# Altium footprint library Power IC Pad Lib.PcbLib: 21 footprints (part 1 of 2)
Each footprint in its own frame and in the unit in brackets; x right, y up, seen from the top. Pads: shape width x height; smd on the part's side, far side on the other; paste and mask are expansions set on the pad; w line width, h text height; cw(c..) or ccw(c..) is an arc to the next point about the centre after c.
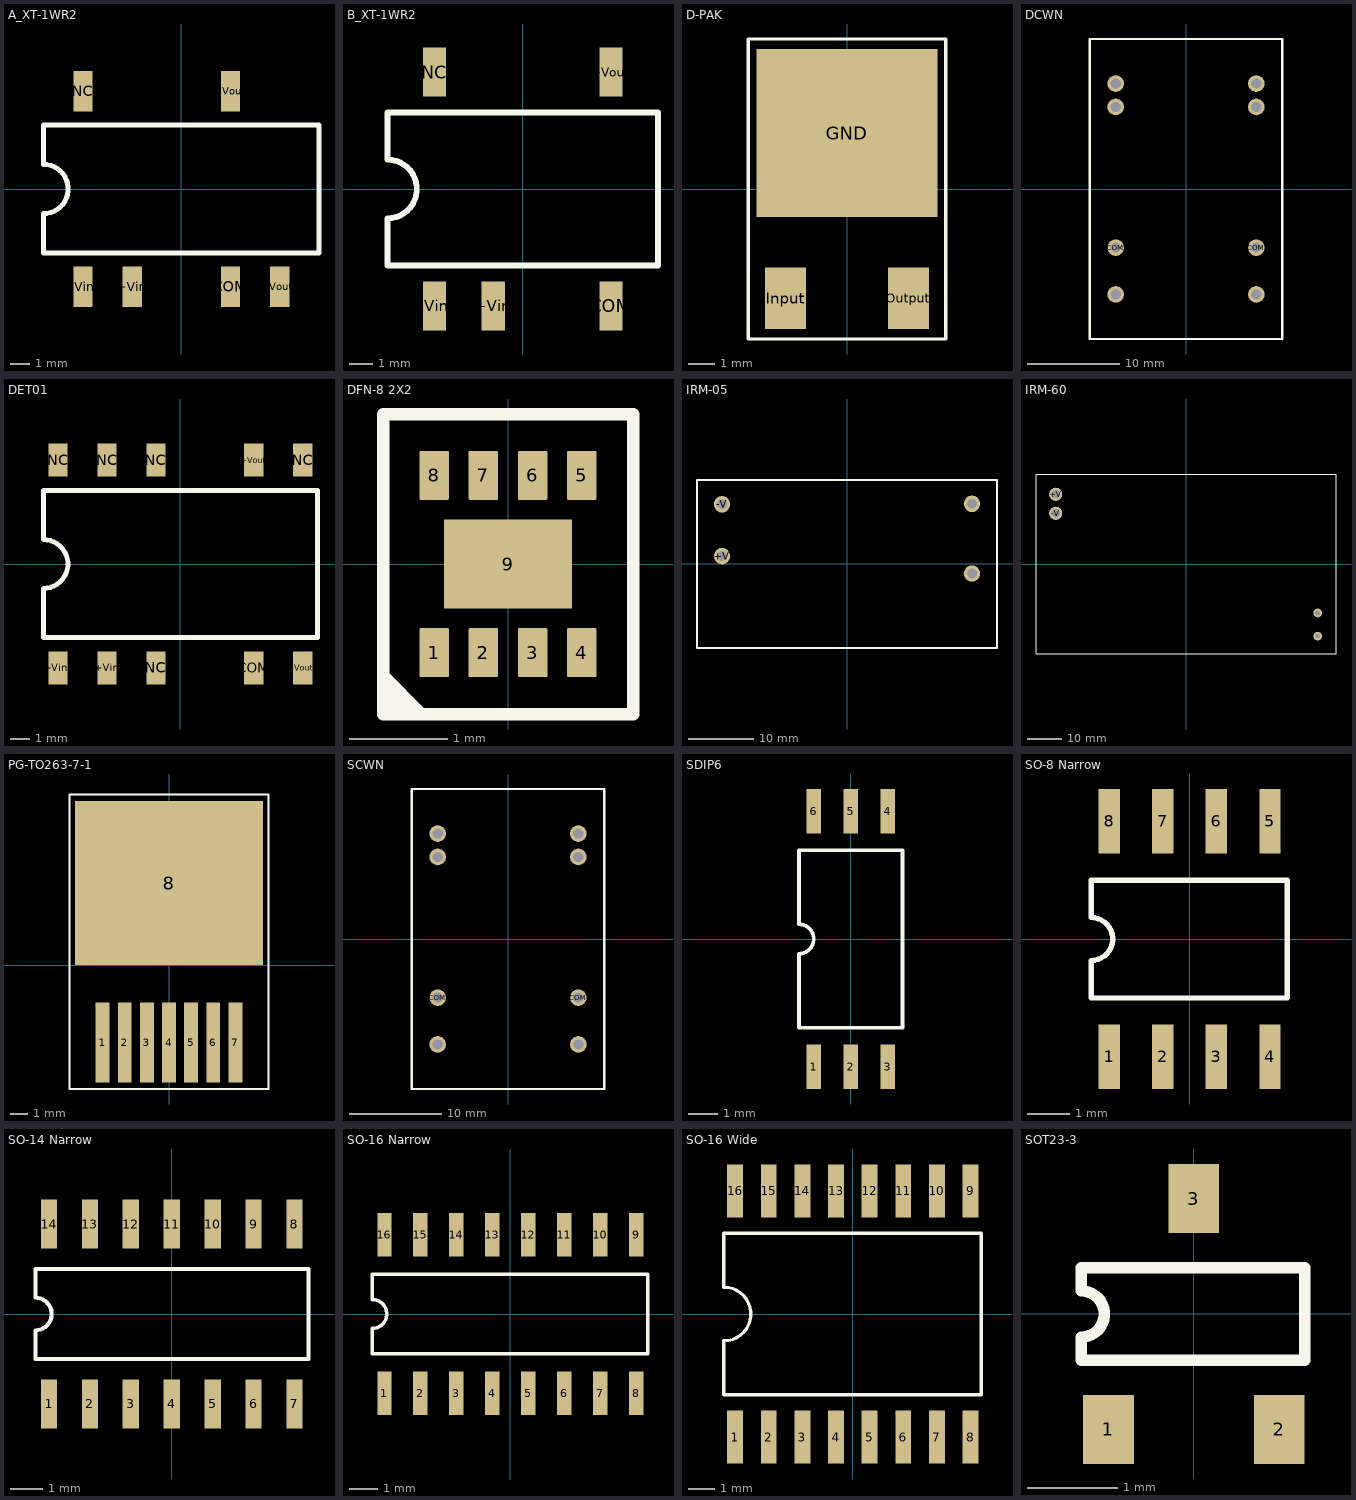
[diagram p0: the footprints below, top view; thin cyan lines are the x and y axes]

## A_XT-1WR2 [mm] "A_XT-1WR2"
pads (6):
  rect 1x2.1 smd: +Vin(-2.54,-5.05) +Vout(2.54,5.05) -Vin(-5.08,-5.05) -Vout(5.08,-5.05) COM(2.54,-5.05) NC(-5.08,5.05)
Top Overlay:
  lines w0.254: -7.112,-3.302 7.112,-3.302 7.112,3.302 -7.112,3.302 -7.112,1.27 cw(c-7.112,0) -7.112,-1.27 -7.112,-3.302
3D body: height 4.34, standoff -0.56, extent -1.778,0 -1.778,0
3D body: height 4.34, standoff -0.56, extent -1.778,0 -1.778,0
3D body "A_XT-1WR2.STEP": height 7.25, standoff 0, extent -7.62,-5.5 7.62,5.7

## B_XT-1WR2 [mm] "B_XT-1WR2"
pads (5):
  rect 1x2.1 smd: +Vin(-1.27,-5.05) +Vout(3.81,5.05) -Vin(-3.81,-5.05) COM(3.81,-5.05) NC(-3.81,5.05)
Top Overlay:
  lines w0.254: -5.842,-3.302 -5.842,-1.27 ccw(c-5.842,0) -5.842,1.27 -5.842,3.302 5.842,3.302 5.842,-3.302 -5.842,-3.302
3D body: height 4.34, standoff -0.56, extent -1.778,0 -1.778,0
3D body: height 4.34, standoff -0.56, extent -1.778,0 -1.778,0
3D body "B_XT-1WR2.STEP": height 7.24, standoff -0.01, extent -6.335,-5.621 6.365,5.579

## D-PAK [mil] "D-PAK Package"
pads (3):
  rect 265x246 smd: GND(0,82)
  rect 60x90 smd: Input(-90,-160) Output(90,-160)
Top Overlay:
  lines w5: -145,-220 145,-220 145,220 -145,220 -145,-220
3D body: height 171, standoff -22, extent 0,0 0,0
3D body: height 171, standoff -22, extent 0,0 0,0
3D body "D-PAK.STEP": height 90.55, standoff 0, extent -127.81,-180.69 127.83,193.33

## DCWN [mm] "DCWN"
pads (8):
  round 1.8 hole 1.1: +Vin(7.62,8.89) +Vin(7.62,11.43) +Vout(7.62,-11.43) -Vin(-7.62,8.89) -Vin(-7.62,11.43) -Vout(-7.62,-11.43) COM(-7.62,-6.35) COM(7.62,-6.35)
Top Overlay:
  lines w0.254: -10.414,-16.256 10.414,-16.256 10.414,16.256 -10.414,16.256 -10.414,-16.256
3D body "DCWN.STEP": height 12.23, standoff -3.79, extent -10.15,-15.9 10.15,15.9

## DET01 [mm] "DET01"
pads (10):
  rect 1x1.7 smd: +Vin(-3.81,-5.4) +Vout(3.81,5.4) -Vin(-6.35,-5.4) -Vout(6.35,-5.4) COM(3.81,-5.4) NC(-6.35,5.4) NC(-3.81,5.4) NC(-1.27,-5.4) NC(-1.27,5.4) NC(6.35,5.4)
Top Overlay:
  lines w0.254: -7.112,-3.81 7.112,-3.81 7.112,3.81 -7.112,3.81 -7.112,1.27 cw(c-7.112,0) -7.112,-1.27 -7.112,-3.81
3D body: height 4.34, standoff -0.56, extent -1.778,0 -1.778,0
3D body: height 4.34, standoff -0.56, extent -1.778,0 -1.778,0
3D body "DET01.STEP": height 6.55, standoff 0, extent -7.62,-5.55 7.62,5.55

## DFN-8 2X2 [mm] "SMD DFN-8  Size:2x2x1mm, 0.5mm Pitch (OnSemi)"
height 1
pads (9):
  rrect10% 0.3x0.5 smd: 1(-0.75,-0.9) 2(-0.25,-0.9) 3(0.25,-0.9) 4(0.75,-0.9) 5(0.75,0.9) 6(0.25,0.9) 7(-0.25,0.9) 8(-0.75,0.9)
  rect 1.3x0.9 smd: 9(0,0)
Top Overlay:
  region: -0.797,-1.524 -1.27,-1.524 -1.27,-1.051
  lines w0.127: -1.27,-1.524 1.27,-1.524 1.27,1.524 -1.27,1.524 -1.27,-1.524
3D body "DFN-8 2x2mm.STEP": height 1, standoff 0, extent -1,-1.05 1,1.05

## IRM-05 [mil] "5W AC-DC Module-type Power Supply"
pads (4):
  round 100 hole 59.06: +V(-758,48) -V(-758,362) AC/L(758,365) AC/N(758,-58)
Top Overlay:
  lines w10: -910,-510 910,-510 910,510 -910,510 -910,-510
3D body "IRM-05 (MeanWell).STEP": height 849.43, standoff -136.8, extent -899.58,-499.58 898.8,499.59

## IRM-60 [mil] "60W AC-DC Module-type Power Supply"
pads (4):
  round 150 hole 100: +V(-1490,797) -V(-1490,580)
  round 100 hole 59.06: AC/L(1505,-825) AC/N(1505,-560)
Top Overlay:
  lines w10: -1715,-1025 1715,-1025 1715,1025 -1715,1025 -1715,-1025
3D body "IRM-60(MeanWell).STEP": height 1161.42, standoff -137.8, extent -1712.6,-1023.62 1712.6,1023.63

## PG-TO263-7-1 [mm] "PG-TO263-7-1 Package"
height 4.4
pads (8):
  rect 0.8x4.6 smd: 1(-3.81,-4.45) 2(-2.54,-4.45) 3(-1.27,-4.45) 4(0,-4.45) 5(1.27,-4.45) 6(2.54,-4.45) 7(3.81,-4.45)
  rect 10.8x9.4 smd: 8(0,4.7)
Top Overlay:
  lines w0.127: -5.715,-7.112 -5.715,9.779 5.715,9.779 5.715,-7.112 -5.715,-7.112
3D body: height 4.34, standoff -0.56, extent 0,0 0,0
3D body: height 4.34, standoff -0.56, extent 0,0 0,0
3D body "PG-TO263-7-1.STEP": height 4.83, standoff 0.03, extent -5,-6.387 5,9.283

## SCWN [mm] "DCWN"
pads (8):
  round 1.8 hole 1.1: +Vin(7.62,8.89) +Vin(7.62,11.43) +Vout(7.62,-11.43) -Vin(-7.62,8.89) -Vin(-7.62,11.43) -Vout(-7.62,-11.43) COM(-7.62,-6.35) COM(7.62,-6.35)
Top Overlay:
  lines w0.254: -10.414,-16.256 10.414,-16.256 10.414,16.256 -10.414,16.256 -10.414,-16.256
3D body "SCWN.STEP": height 12.23, standoff -3.79, extent -10.15,-15.9 10.15,15.9

## SDIP6 [mil] "SO-8 Narrow"
pads (6):
  rect 20x60 smd: 1(-50,-173) 2(0,-173) 3(50,-173) 4(50,173) 5(0,173) 6(-50,173)
Top Overlay:
  lines w5: -70,-120 70,-120 70,120 -70,120 -70,20 cw(c-70,0) -70,-20 -70,-120
3D body: height 171, standoff -22, extent 0,0 0,0
3D body: height 171, standoff -22, extent 0,0 0,0
3D body "SDIP6 (Toshiba).STEP": height 155.7, standoff -0.01, extent -90.55,-187 90.55,187.01

## SO-8 Narrow [mil] "SO-8 Narrow"
pads (8):
  rect 20x60 smd: 1(-75,-110) 2(-25,-110) 3(25,-110) 4(75,-110) 5(75,110) 6(25,110) 7(-25,110) 8(-75,110)
Top Overlay:
  lines w5: -91.75,-55 -91.75,-20 ccw(c-91.75,0) -91.75,20 -91.75,55 91,55 91,-55 -91.75,-55
3D body: height 171, standoff -22, extent 0,0 0,0
3D body: height 171, standoff -22, extent 0,0 0,0
3D body "SO-8 Narrow.step": height 57, standoff 0, extent -96.75,-115 96.25,112.49

## SO-14 Narrow [mil] "SO-14 Narrow"
pads (14):
  rect 20x60 smd: 1(-150,-110) 2(-100,-110) 3(-50,-110) 4(0,-110) 5(50,-110) 6(100,-110) 7(150,-110) 8(150,110) 9(100,110) 10(50,110) 11(0,110) 12(-50,110) 13(-100,110) 14(-150,110)
Top Overlay:
  lines w5: -166.75,-55 167,-55 167,55 -166.75,55 -166.75,20 cw(c-166.75,0) -166.75,-20 -166.75,-55
3D body: height 171, standoff -22, extent -70,0 -70,0
3D body: height 171, standoff -22, extent -70,0 -70,0
3D body "SOIC-14 Narrow.step": height 68.9, standoff 0, extent -172.24,-118.1 172.25,118.12

## SO-16 Narrow [mil] "SO-16 Narrow"
pads (16):
  rect 20x60 smd: 1(-175,-110) 2(-125,-110) 3(-75,-110) 4(-25,-110) 5(25,-110) 6(75,-110) 7(125,-110) 8(175,-110) 9(175,110) 10(125,110) 11(75,110) 12(25,110) 13(-25,110) 14(-75,110) 15(-125,110) 16(-175,110)
Top Overlay:
  lines w5: -191.75,-55 -191.75,-20 ccw(c-191.75,0) -191.75,20 -191.75,55 191,55 191,-55 -191.75,-55
3D body: height 171, standoff -22, extent -100,0 -100,0
3D body: height 171, standoff -22, extent -100,0 -100,0
3D body "SOIC-16 Narrow.step": height 68.9, standoff 0, extent -196.85,-118.11 196.85,118.11

## SO-16 Wide [mm] "SO-16 Wide"
pads (16):
  rect 0.6x2 smd: 1(-4.445,-4.65) 2(-3.175,-4.65) 3(-1.905,-4.65) 4(-0.635,-4.65) 5(0.635,-4.65) 6(1.905,-4.65) 7(3.175,-4.65) 8(4.445,-4.65) 9(4.445,4.65) 10(3.175,4.65) 11(1.905,4.65) 12(0.635,4.65) 13(-0.635,4.65) 14(-1.905,4.65) 15(-3.175,4.65) 16(-4.445,4.65)
Top Overlay:
  lines w0.127: -4.87,-3.048 4.851,-3.048 4.851,3.048 -4.87,3.048 -4.87,1.016 cw(c-4.87,0) -4.87,-1.016 -4.87,-3.048
3D body: height 4.34, standoff -0.56, extent -2.54,0 -2.54,0
3D body: height 4.34, standoff -0.56, extent -2.54,0 -2.54,0
3D body "SOIC-16 Wide.step": height 2.75, standoff 0, extent -5.15,-5.15 5.15,5.15

## SOT23-3 [mil] "SOT23-3"
pads (3):
  rect 22x30 smd: 1(-37,-50) 2(37,-50) 3(0,50)
Top Overlay:
  lines w5: -48.75,-20 48,-20 48,20 -48.75,20 -48.75,10 cw(c-48.75,0) -48.75,-10 -48.75,-20
3D body: height 171, standoff -22, extent 48,0 48,0
3D body: height 171, standoff -22, extent 48,0 48,0
3D body "SOT23-3.step": height 51.18, standoff 0, extent -57.08,-55.11 57.09,55.12